# Altium schematic symbol library Thermocouple.SchLib: 4 symbols
Pins are listed as number, name and electrical type; pins without a type are passive.

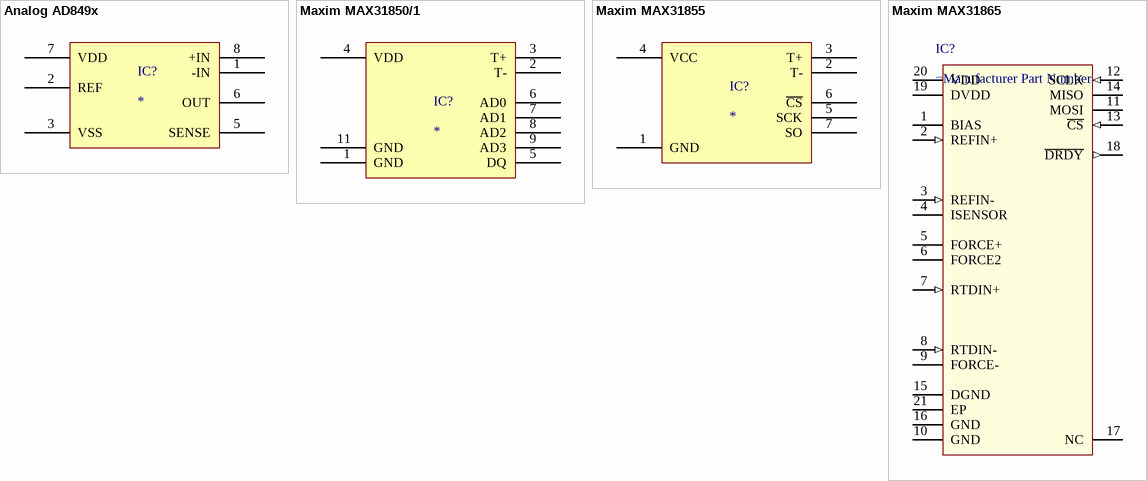
[diagram p0: symbols Analog AD849x to Maxim MAX31865]

## Analog AD849x
designator IC?
pins: 1 -IN, 2 REF, 3 VSS, 5 SENSE, 6 OUT, 7 VDD, 8 +IN

## Maxim MAX31850/1
designator IC?
pins: 1 GND, 2 T-, 3 T+, 4 VDD, 5 DQ, 6 AD0, 7 AD1, 8 AD2, 9 AD3, 11 GND

## Maxim MAX31855
designator IC?
pins: 1 GND, 2 T-, 3 T+, 4 VCC, 5 SCK, 6 ~{CS}, 7 SO

## Maxim MAX31865
designator IC?
RTD-to-Digital Converter
footprint MAXIM QFN-20 5x5mm
pins: 1 BIAS, 2 REFIN+ (in), 3 REFIN- (in), 4 ISENSOR, 5 FORCE+, 6 FORCE2, 7 RTDIN+ (in), 8 RTDIN- (in), 9 FORCE-, 10 GND (power), 11 MOSI, 12 SCLK (in), 13 ~{CS} (in), 14 MISO, 15 DGND (power), 16 GND (power), 17 NC, 18 ~{DRDY} (out), 19 DVDD (power), 20 VDD (power), 21 EP